# EAGLE library part ADA4096-2 (library Custom_Library)
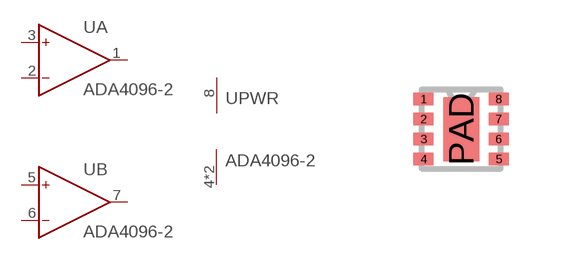
[diagram p9: symbol with the pads of CP-8-10; footprint CP-8-10]

Designator prefix -; gates A=OP B=OP PWR=PWR+-

## ADA4096-2  [CP-8-10]
1  A:OUT  out
2  A:IN-  in
3  A:IN+  in
4  PWR:V-  pwr
5  B:IN+  in
6  B:IN-  in
7  B:OUT  out
8  PWR:V+  pwr
PAD  PWR:V-  pwr

## Footprint CP-8-10 (pad centres in mm)
smd 0.5 x 0.31: 1 -0.94,0.75; 2 -0.94,0.25; 3 -0.94,-0.25; 4 -0.94,-0.75; 5 0.94,-0.75; 6 0.94,-0.25; 7 0.94,0.25; 8 0.94,0.75
smd 0.9 x 1.6: PAD 0,0